# Altium schematic symbol library MGN1S1208MC-R7.SchLib: 1 symbol
Pins are listed as number, name and electrical type; pins without a type are passive.

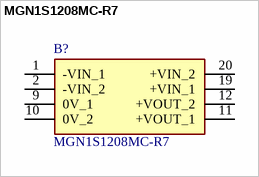
[diagram p0: symbol MGN1S1208MC-R7]

## MGN1S1208MC-R7
designator B?
DC-DC 1W SM 12-8V GAN; Manufacturer_Name: Murata Electronics; Geometry.Height: 4.7mm; Manufacturer_Part_Number: MGN1S1208MC-R7; Mouser Part Number: 580-MGN1S1208MC-R7; Mouser Price/Stock: https://www.mouser.co.uk/ProductDetail/Murata-Power-Solutions/MGN1S1208MC-R7?qs=Jm2GQyTW%2Fbj7wXls7Lj2mQ%3D%3D; Arrow Part Number: *; Arrow Price/Stock: *; Datasheet Link: https://www.murata.com/products/productdata/8819021971486/KDC-MGN1.pdf?1671420703000
footprint MGN1S1208MCR7
pins: 1 -VIN_1, 2 -VIN_2, 9 0V_1, 10 0V_2, 11 +VOUT_1, 12 +VOUT_2, 19 +VIN_1, 20 +VIN_2